# Altium schematic symbol library LM2903.SchLib: 1 symbol
Pins are listed as number, name and electrical type; pins without a type are passive.

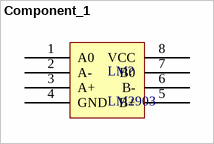
[diagram p0: symbol Component_1]

## Component_1
designator LM?, comment LM2903
pins: 1 A0, 2 A-, 3 A+, 4 GND, 5 B+, 6 B-, 7 B0, 8 VCC